# EAGLE library part LM7705 (library 25cmsquare)
LM7705 LM7705 Low Noise Negative Bias Generator
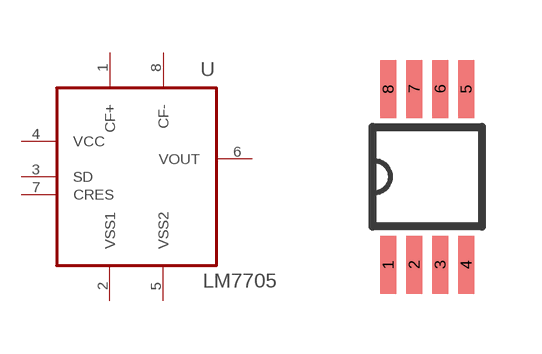
[diagram p6: symbol with the pads of VSSOP-8; footprint VSSOP-8]

Designator prefix U

## LM7705  [VSSOP-8]
1  CF+  pas
2  VSS1  pwr
3  SD  in
4  VCC  pwr
5  VSS2  pwr
6  VOUT  out
7  CRES  pas
8  CF-  pas

## Footprint VSSOP-8 (pad centres in mm)
smd 0.4 x 1.45: 1 -2,-2.2; 2 -1.35,-2.2; 3 -0.7,-2.2; 4 -0.05,-2.2; 5 -0.05,2.2; 6 -0.7,2.2; 7 -1.35,2.2; 8 -2,2.2